# EAGLE library part HEADER-6 (library ITP_Eagle)
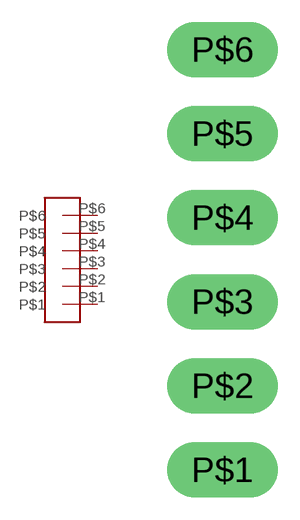
[diagram p3: symbol with the pads of HEADER-6; footprint HEADER-6]

Designator prefix -

## HEADER-6  [HEADER-6]
P$1  P$1
P$2  P$2
P$3  P$3
P$4  P$4
P$5  P$5
P$6  P$6

## Footprint HEADER-6 (pad centres in mm)
drill 1.016 pad 1.676 long: P$1 0,0; P$2 0,2.54; P$3 0,5.08; P$4 0,7.62; P$5 0,10.16; P$6 0,12.7